# EAGLE library part 691331510016 (library Wurth_Connectors_WR-TBL Pluggable Connector)
WR-TBL Serie 3315 - 5.08 mm Double Level Horizontal Male PCB Header w. Flanges KIND PROPERTIES Pitch 5.08 mm MATERIAL PROPERTIES Insulator Material PA66 Insulator Flammability Rating UL94 V-0 Insulator Color Green Contact Material Brass Contact Plating Tin GENERAL INFORMATION Operating Temperature -40 up to +105 °C ELECTRICAL PROPERTIES IR UL 20 A Working Voltage [UL] 300 V (AC) Withstanding Voltage [cULus] 1600 V (AC) Contact Resistance [cULus] 20 mΩ CERTIFICATION cULus Approval E315414 <https://www.we-online.com/catalog/media/o33284v209%20Family_WR-TBL_6913315100xx.jpg> Details see: https://www.we-online.com/catalog/en/TBL_5_08_3315_DOUBLE_LEVEL_HORIZONTAL_MALE_PCB_HEADER_W_FLANGES_6913315100XX/ Updated by Ella Wu 2019-12-26 2022(C) Wurth Elektronik
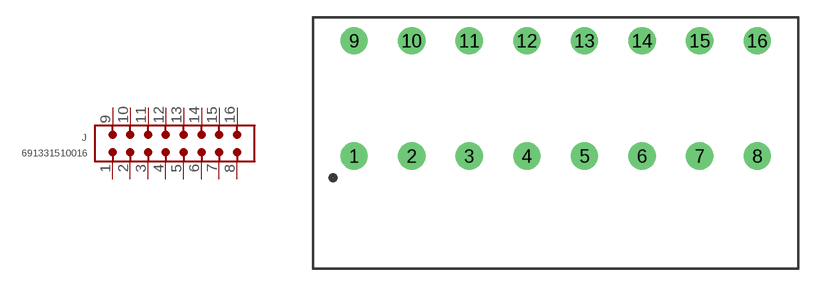
[diagram p355: symbol with the pads of 691331510016; footprint 691331510016]

Designator prefix J

## 691331510016 (DATASHEET-URL: https://www.we-online.com/redexpert/spec/691331510016?ae; IR-UL: 20A; MOUNT: THT; PART-NUMBER: 691331510016; PINS: 16; PITCH: 5.08mm; TYPE: Double Level Horizontal; VALUE: 691331510016; WORKING-VOLTAGE-UL: 300V (AC))  [691331510016]
1  1  pas
2  2  pas
3  3  pas
4  4  pas
5  5  pas
6  6  pas
7  7  pas
8  8  pas
9  9  pas
10  10  pas
11  11  pas
12  12  pas
13  13  pas
14  14  pas
15  15  pas
16  16  pas

## Footprint 691331510016 (pad centres in mm)
WR-TBL Serie 3315 - 5.08 mm Double Level Horizontal Male PCB Header w. Flanges Max Height = 28.8mm , Pitch 5.08mm , 16pins
drill 1.6: 1 -17.78,-5.08; 2 -12.7,-5.08; 3 -7.62,-5.08; 4 -2.54,-5.08; 5 2.54,-5.08; 6 7.62,-5.08; 7 12.7,-5.08; 8 17.78,-5.08; 9 -17.78,5.08; 10 -12.7,5.08; 11 -7.62,5.08; 12 -2.54,5.08; 13 2.54,5.08; 14 7.62,5.08; 15 12.7,5.08; 16 17.78,5.08